# Altium schematic symbol library FUSE_PTC.Schlib: 1 symbol
Pins are listed as number, name and electrical type; pins without a type are passive.

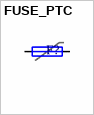
[diagram p0: symbol FUSE_PTC]

## FUSE_PTC
designator F?
pins: 1, 2